# Altium schematic symbol library Tact_switches.SchLib: 1 symbol
Pins are listed as number, name and electrical type; pins without a type are passive.

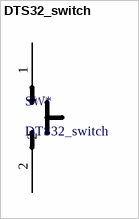
[diagram p0: symbol DTS32_switch]

## DTS32_switch
designator SW*
footprint DTS32
pins: 1, 2